# Altium footprint library Capacitors SMD.PcbLib: 96 footprints (part 2 of 6)
Each footprint in its own frame and in the unit in brackets; x right, y up, seen from the top. Pads: shape width x height; smd on the part's side, far side on the other; paste and mask are expansions set on the pad; w line width, h text height; cw(c..) or ccw(c..) is an arc to the next point about the centre after c.
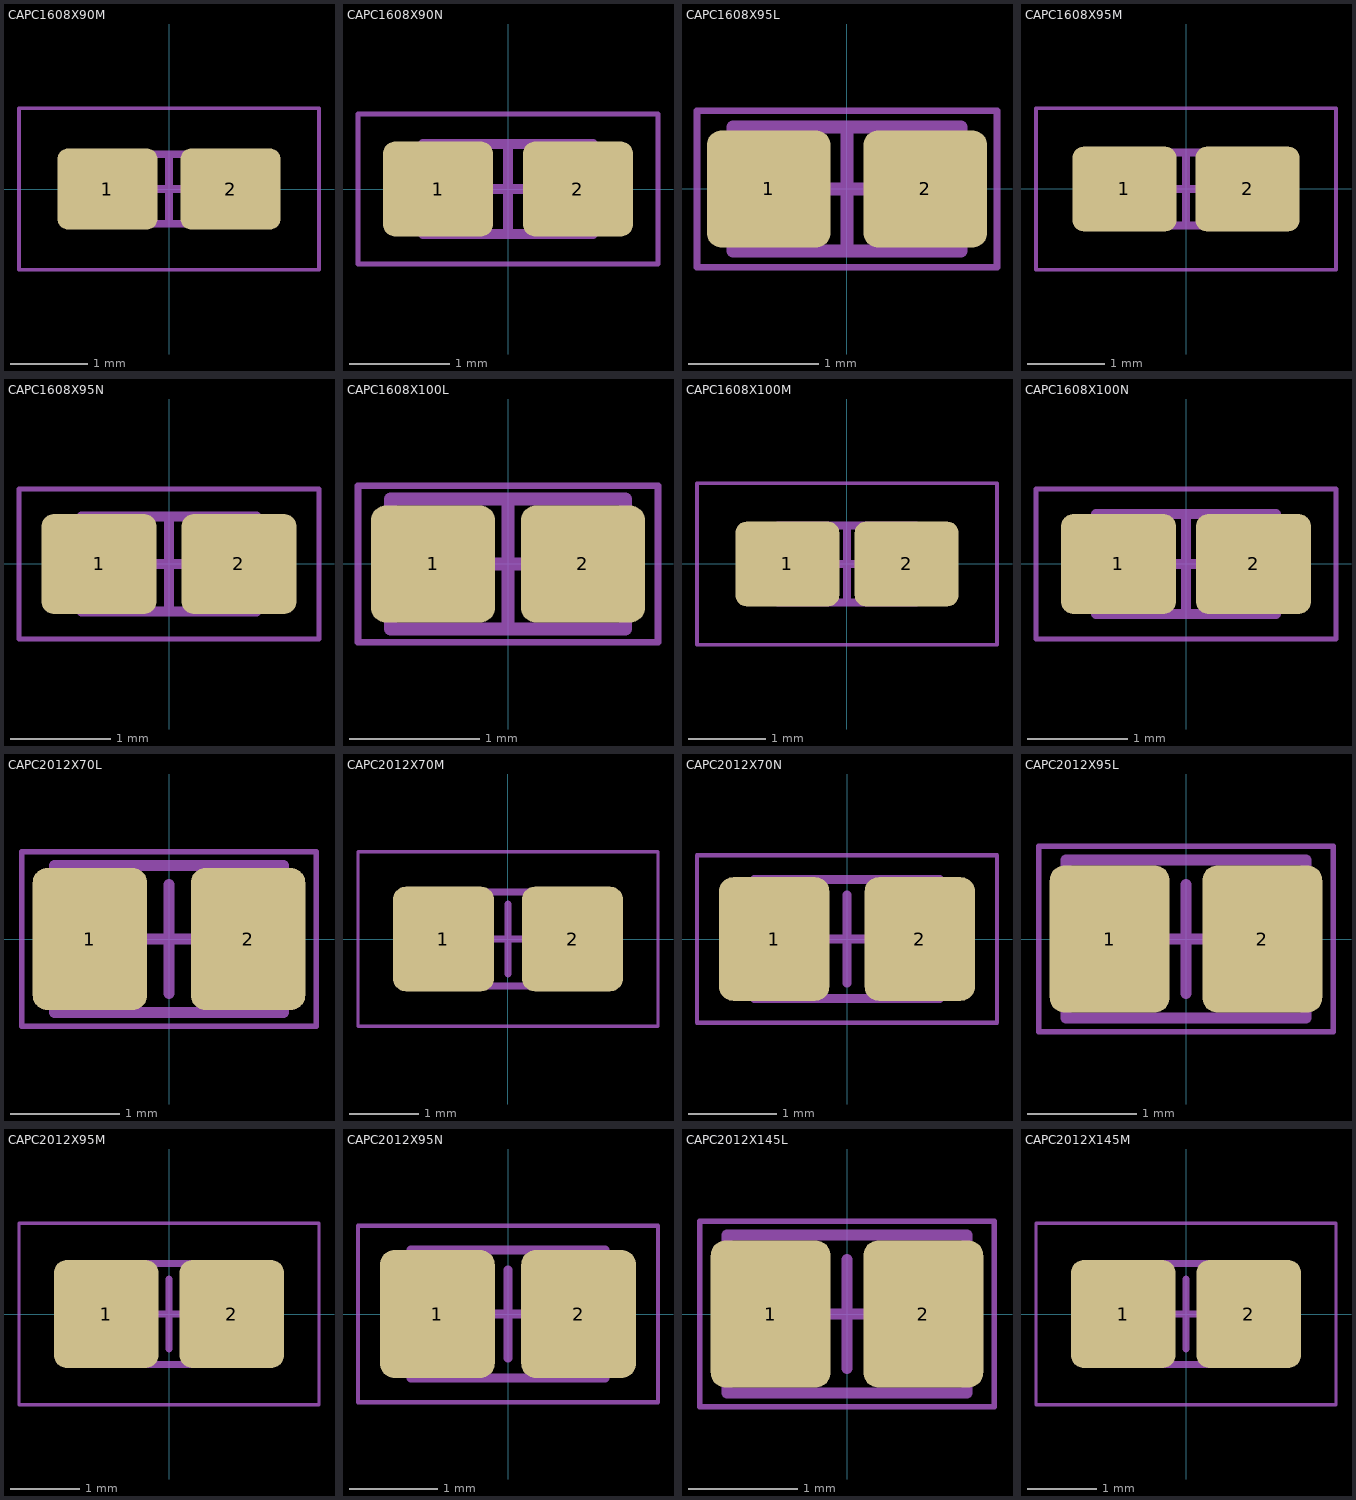
[diagram p1: the footprints below, top view; thin cyan lines are the x and y axes]

## CAPC1608X90M [mm] "Chip Capacitor, EIA 0603, Metric 1608, Body 1.60x0.80mm, IPC Low Density"
height 0.9
pads (2):
  rrect25% 1.3x1.05 smd paste+0 mask+0.05: 1(-0.8,0) 2(0.8,0)
Top Component Outline:
  lines w0.1: -0.85,-0.45 -0.85,0.45 0.85,0.45 0.85,-0.45 -0.85,-0.45
Top Courtyard:
  lines w0.05: -1.95,-1.05 -1.95,1.05 1.95,1.05 1.95,-1.05 -1.95,-1.05
Top Component Center:
  lines w0.1: -0.45,0 0.45,0 ; 0,-0.45 0,0.45
Top Designator:
  text ".Designator" at -4.04,-0.476 h2
Top Assembly:
  lines w0.1: -0.85,-0.45 -0.85,0.45 0.85,0.45 0.85,-0.45 -0.85,-0.45
  text ".Designator" at -4.04,-0.476 h2
3D body "CAPC1608X90N.step": height 0.9, standoff 0, extent -0.85,-0.45 0.85,0.45

## CAPC1608X90N [mm] "Chip Capacitor, EIA 0603, Metric 1608, Body 1.60x0.80mm, IPC Medium Density"
height 0.9
pads (2):
  rrect25% 1.1x0.95 smd paste+0 mask+0.05: 1(-0.7,0) 2(0.7,0)
Top Component Outline:
  lines w0.1: -0.85,-0.45 -0.85,0.45 0.85,0.45 0.85,-0.45 -0.85,-0.45
Top Courtyard:
  lines w0.05: -1.5,-0.75 1.5,-0.75 1.5,0.75 -1.5,0.75 -1.5,-0.75
Top Component Center:
  lines w0.1: -0.45,0 0.45,0 ; 0,-0.45 0,0.45
Top Designator:
  text ".Designator" at -4.04,-0.476 h2
Top Assembly:
  lines w0.1: -0.85,-0.45 0.85,-0.45 0.85,0.45 -0.85,0.45 -0.85,-0.45
  text ".Designator" at -4.04,-0.476 h2
3D body "CAPC1608X90N.step": height 0.9, standoff 0, extent -0.85,-0.45 0.85,0.45

## CAPC1608X95L [mm] "Chip Capacitor, EIA 0603, Metric 1608, Body 1.60x0.80mm, IPC High Density"
height 0.95
pads (2):
  rrect25% 0.95x0.9 smd paste+0 mask+0.05: 1(-0.6,0) 2(0.6,0)
Top Component Outline:
  lines w0.1: -0.875,-0.475 0.875,-0.475 0.875,0.475 -0.875,0.475 -0.875,-0.475
Top Courtyard:
  lines w0.05: -1.15,-0.6 1.15,-0.6 1.15,0.6 -1.15,0.6 -1.15,-0.6
Top Component Center:
  lines w0.1: -0.475,0 0.475,0 ; 0,-0.475 0,0.475
Top Designator:
  text ".Designator" at -4.04,-0.476 h2
Top Assembly:
  lines w0.1: -0.875,-0.475 0.875,-0.475 0.875,0.475 -0.875,0.475 -0.875,-0.475
  text ".Designator" at -4.04,-0.476 h2
3D body "CAPC1608X95N.step": height 0.95, standoff 0, extent -0.875,-0.475 0.875,0.475

## CAPC1608X95M [mm] "Chip Capacitor, EIA 0603, Metric 1608, Body 1.60x0.80mm, IPC Low Density"
height 0.95
pads (2):
  rrect25% 1.35x1.1 smd paste+0 mask+0.05: 1(-0.8,0) 2(0.8,0)
Top Component Outline:
  lines w0.1: -0.875,-0.475 -0.875,0.475 0.875,0.475 0.875,-0.475 -0.875,-0.475
Top Courtyard:
  lines w0.05: -1.95,-1.05 -1.95,1.05 1.95,1.05 1.95,-1.05 -1.95,-1.05
Top Component Center:
  lines w0.1: -0.475,0 0.475,0 ; 0,-0.475 0,0.475
Top Designator:
  text ".Designator" at -4.04,-0.476 h2
Top Assembly:
  lines w0.1: -0.875,-0.475 -0.875,0.475 0.875,0.475 0.875,-0.475 -0.875,-0.475
  text ".Designator" at -4.04,-0.476 h2
3D body "CAPC1608X95N.step": height 0.95, standoff 0, extent -0.875,-0.475 0.875,0.475

## CAPC1608X95N [mm] "Chip Capacitor, EIA 0603, Metric 1608, Body 1.60x0.80mm, IPC Medium Density"
height 0.95
pads (2):
  rrect25% 1.15x1 smd paste+0 mask+0.05: 1(-0.7,0) 2(0.7,0)
Top Component Outline:
  lines w0.1: -0.875,-0.475 0.875,-0.475 0.875,0.475 -0.875,0.475 -0.875,-0.475
Top Courtyard:
  lines w0.05: -1.5,-0.75 1.5,-0.75 1.5,0.75 -1.5,0.75 -1.5,-0.75
Top Component Center:
  lines w0.1: -0.475,0 0.475,0 ; 0,-0.475 0,0.475
Top Designator:
  text ".Designator" at -4.04,-0.476 h2
Top Assembly:
  lines w0.1: -0.875,-0.475 0.875,-0.475 0.875,0.475 -0.875,0.475 -0.875,-0.475
  text ".Designator" at -4.04,-0.476 h2
3D body "CAPC1608X95N.step": height 0.95, standoff 0, extent -0.875,-0.475 0.875,0.475

## CAPC1608X100L [mm] "Chip Capacitor, EIA 0603, Metric 1608, Body 1.60x0.80mm, IPC High Density"
height 1
pads (2):
  rrect25% 0.95x0.9 smd paste+0 mask+0.05: 1(-0.575,0) 2(0.575,0)
Top Component Outline:
  lines w0.1: -0.9,-0.5 -0.9,0.5 0.9,0.5 0.9,-0.5 -0.9,-0.5
Top Courtyard:
  lines w0.05: -1.15,-0.6 1.15,-0.6 1.15,0.6 -1.15,0.6 -1.15,-0.6
Top Component Center:
  lines w0.1: -0.5,0 0.5,0 ; 0,-0.5 0,0.5
Top Designator:
  text ".Designator" at -4.04,-0.476 h2
Top Assembly:
  lines w0.1: -0.9,-0.5 0.9,-0.5 0.9,0.5 -0.9,0.5 -0.9,-0.5
  text ".Designator" at -4.04,-0.476 h2
3D body "CAPC1608X100N.step": height 1, standoff 0, extent -0.9,-0.5 0.9,0.5

## CAPC1608X100M [mm] "Chip Capacitor, EIA 0603, Metric 1608, Body 1.60x0.80mm, IPC Low Density"
height 1
pads (2):
  rrect25% 1.35x1.1 smd paste+0 mask+0.05: 1(-0.775,0) 2(0.775,0)
Top Component Outline:
  lines w0.1: -0.9,-0.5 0.9,-0.5 0.9,0.5 -0.9,0.5 -0.9,-0.5
Top Courtyard:
  lines w0.05: -1.95,-1.05 1.95,-1.05 1.95,1.05 -1.95,1.05 -1.95,-1.05
Top Component Center:
  lines w0.1: -0.5,0 0.5,0 ; 0,-0.5 0,0.5
Top Designator:
  text ".Designator" at -4.04,-0.476 h2
Top Assembly:
  lines w0.1: -0.9,-0.5 0.9,-0.5 0.9,0.5 -0.9,0.5 -0.9,-0.5
  text ".Designator" at -4.04,-0.476 h2
3D body "CAPC1608X100N.step": height 1, standoff 0, extent -0.9,-0.5 0.9,0.5

## CAPC1608X100N [mm] "Chip Capacitor, EIA 0603, Metric 1608, Body 1.60x0.80mm, IPC Medium Density"
height 1
pads (2):
  rrect25% 1.15x1 smd paste+0 mask+0.05: 1(-0.675,0) 2(0.675,0)
Top Component Outline:
  lines w0.1: -0.9,-0.5 0.9,-0.5 0.9,0.5 -0.9,0.5 -0.9,-0.5
Top Courtyard:
  lines w0.05: -1.5,-0.75 1.5,-0.75 1.5,0.75 -1.5,0.75 -1.5,-0.75
Top Component Center:
  lines w0.1: -0.5,0 0.5,0 ; 0,-0.5 0,0.5
Top Designator:
  text ".Designator" at -4.04,-0.476 h2
Top Assembly:
  lines w0.1: -0.9,-0.5 0.9,-0.5 0.9,0.5 -0.9,0.5 -0.9,-0.5
  text ".Designator" at -4.04,-0.476 h2
3D body "CAPC1608X100N.step": height 1, standoff 0, extent -0.9,-0.5 0.9,0.5

## CAPC2012X70L [mm] "Chip Capacitor, EIA 0805, Metric 2012, Body 2.00x1.25mm, IPC High Density"
height 0.7
pads (2):
  rrect25% 1.05x1.3 smd paste+0 mask+0.05: 1(-0.725,0) 2(0.725,0)
Top Component Outline:
  lines w0.1: -1.05,-0.675 -1.05,0.675 1.05,0.675 1.05,-0.675 -1.05,-0.675
Top Courtyard:
  lines w0.05: -1.35,-0.8 1.35,-0.8 1.35,0.8 -1.35,0.8 -1.35,-0.8
Top Component Center:
  lines w0.1: -0.5,0 0.5,0 ; 0,-0.5 0,0.5
Top Designator:
  text ".Designator" at -4.04,-0.476 h2
Top Assembly:
  lines w0.1: -1.05,-0.675 1.05,-0.675 1.05,0.675 -1.05,0.675 -1.05,-0.675
  text ".Designator" at -4.04,-0.476 h2
3D body "CAPC2012X70N.step": height 0.7, standoff 0, extent -1.05,-0.675 1.05,0.675

## CAPC2012X70M [mm] "Chip Capacitor, EIA 0805, Metric 2012, Body 2.00x1.25mm, IPC Low Density"
height 0.7
pads (2):
  rrect25% 1.45x1.5 smd paste+0 mask+0.05: 1(-0.925,0) 2(0.925,0)
Top Component Outline:
  lines w0.1: -1.05,-0.675 1.05,-0.675 1.05,0.675 -1.05,0.675 -1.05,-0.675
Top Courtyard:
  lines w0.05: -2.15,-1.25 -2.15,1.25 2.15,1.25 2.15,-1.25 -2.15,-1.25
Top Component Center:
  lines w0.1: -0.5,0 0.5,0 ; 0,-0.5 0,0.5
Top Designator:
  text ".Designator" at -4.04,-0.476 h2
Top Assembly:
  lines w0.1: -1.05,-0.675 -1.05,0.675 1.05,0.675 1.05,-0.675 -1.05,-0.675
  text ".Designator" at -4.04,-0.476 h2
3D body "CAPC2012X70N.step": height 0.7, standoff 0, extent -1.05,-0.675 1.05,0.675

## CAPC2012X70N [mm] "Chip Capacitor, EIA 0805, Metric 2012, Body 2.00x1.25mm, IPC Medium Density"
height 0.7
pads (2):
  rrect25% 1.25x1.4 smd paste+0 mask+0.05: 1(-0.825,0) 2(0.825,0)
Top Component Outline:
  lines w0.1: -1.05,-0.675 1.05,-0.675 1.05,0.675 -1.05,0.675 -1.05,-0.675
Top Courtyard:
  lines w0.05: -1.7,-0.95 1.7,-0.95 1.7,0.95 -1.7,0.95 -1.7,-0.95
Top Component Center:
  lines w0.1: -0.5,0 0.5,0 ; 0,-0.5 0,0.5
Top Designator:
  text ".Designator" at -4.04,-0.476 h2
Top Assembly:
  lines w0.1: -1.05,-0.675 1.05,-0.675 1.05,0.675 -1.05,0.675 -1.05,-0.675
  text ".Designator" at -4.04,-0.476 h2
3D body "CAPC2012X70N.step": height 0.7, standoff 0, extent -1.05,-0.675 1.05,0.675

## CAPC2012X95L [mm] "Chip Capacitor, EIA 0805, Metric 2012, Body 2.00x1.25mm, IPC High Density"
height 0.95
pads (2):
  rrect25% 1.1x1.35 smd paste+0 mask+0.05: 1(-0.7,0) 2(0.7,0)
Top Component Outline:
  lines w0.1: -1.1,-0.725 1.1,-0.725 1.1,0.725 -1.1,0.725 -1.1,-0.725
Top Courtyard:
  lines w0.05: -1.35,-0.85 -1.35,0.85 1.35,0.85 1.35,-0.85 -1.35,-0.85
Top Component Center:
  lines w0.1: -0.5,0 0.5,0 ; 0,-0.5 0,0.5
Top Designator:
  text ".Designator" at -4.04,-0.476 h2
Top Assembly:
  lines w0.1: -1.1,-0.725 -1.1,0.725 1.1,0.725 1.1,-0.725 -1.1,-0.725
  text ".Designator" at -4.04,-0.476 h2
3D body "CAPC2012X95N.step": height 0.95, standoff 0, extent -1.1,-0.725 1.1,0.725

## CAPC2012X95M [mm] "Chip Capacitor, EIA 0805, Metric 2012, Body 2.00x1.25mm, IPC Low Density"
height 0.95
pads (2):
  rrect25% 1.5x1.55 smd paste+0 mask+0.05: 1(-0.9,0) 2(0.9,0)
Top Component Outline:
  lines w0.1: -1.1,-0.725 -1.1,0.725 1.1,0.725 1.1,-0.725 -1.1,-0.725
Top Courtyard:
  lines w0.05: -2.15,-1.3 -2.15,1.3 2.15,1.3 2.15,-1.3 -2.15,-1.3
Top Component Center:
  lines w0.1: -0.5,0 0.5,0 ; 0,-0.5 0,0.5
Top Designator:
  text ".Designator" at -4.04,-0.476 h2
Top Assembly:
  lines w0.1: -1.1,-0.725 -1.1,0.725 1.1,0.725 1.1,-0.725 -1.1,-0.725
  text ".Designator" at -4.04,-0.476 h2
3D body "CAPC2012X95N.step": height 0.95, standoff 0, extent -1.1,-0.725 1.1,0.725

## CAPC2012X95N [mm] "Chip Capacitor, EIA 0805, Metric 2012, Body 2.00x1.25mm, IPC Medium Density"
height 0.95
pads (2):
  rrect25% 1.3x1.45 smd paste+0 mask+0.05: 1(-0.8,0) 2(0.8,0)
Top Component Outline:
  lines w0.1: -1.1,-0.725 -1.1,0.725 1.1,0.725 1.1,-0.725 -1.1,-0.725
Top Courtyard:
  lines w0.05: -1.7,-1 -1.7,1 1.7,1 1.7,-1 -1.7,-1
Top Component Center:
  lines w0.1: -0.5,0 0.5,0 ; 0,-0.5 0,0.5
Top Designator:
  text ".Designator" at -4.04,-0.476 h2
Top Assembly:
  lines w0.1: -1.1,-0.725 -1.1,0.725 1.1,0.725 1.1,-0.725 -1.1,-0.725
  text ".Designator" at -4.04,-0.476 h2
3D body "CAPC2012X95N.step": height 0.95, standoff 0, extent -1.1,-0.725 1.1,0.725

## CAPC2012X145L [mm] "Chip Capacitor, EIA 0805, Metric 2012, Body 2.00x1.25mm, IPC High Density"
height 1.45
pads (2):
  rrect25% 1.1x1.35 smd paste+0 mask+0.05: 1(-0.7,0) 2(0.7,0)
Top Component Outline:
  lines w0.1: -1.1,-0.725 1.1,-0.725 1.1,0.725 -1.1,0.725 -1.1,-0.725
Top Courtyard:
  lines w0.05: -1.35,-0.85 1.35,-0.85 1.35,0.85 -1.35,0.85 -1.35,-0.85
Top Component Center:
  lines w0.1: -0.5,0 0.5,0 ; 0,-0.5 0,0.5
Top Designator:
  text ".Designator" at -4.04,-0.476 h2
Top Assembly:
  lines w0.1: -1.1,-0.725 1.1,-0.725 1.1,0.725 -1.1,0.725 -1.1,-0.725
  text ".Designator" at -4.04,-0.476 h2
3D body "CAPC2012X145N.step": height 1.45, standoff 0, extent -1.1,-0.725 1.1,0.725

## CAPC2012X145M [mm] "Chip Capacitor, EIA 0805, Metric 2012, Body 2.00x1.25mm, IPC Low Density"
height 1.45
pads (2):
  rrect25% 1.5x1.55 smd paste+0 mask+0.05: 1(-0.9,0) 2(0.9,0)
Top Component Outline:
  lines w0.1: -1.1,-0.725 1.1,-0.725 1.1,0.725 -1.1,0.725 -1.1,-0.725
Top Courtyard:
  lines w0.05: -2.15,-1.3 -2.15,1.3 2.15,1.3 2.15,-1.3 -2.15,-1.3
Top Component Center:
  lines w0.1: -0.5,0 0.5,0 ; 0,-0.5 0,0.5
Top Designator:
  text ".Designator" at -4.04,-0.476 h2
Top Assembly:
  lines w0.1: -1.1,-0.725 -1.1,0.725 1.1,0.725 1.1,-0.725 -1.1,-0.725
  text ".Designator" at -4.04,-0.476 h2
3D body "CAPC2012X145N.step": height 1.45, standoff 0, extent -1.1,-0.725 1.1,0.725